# EAGLE library part MIMXRT1051DVL6B (library MIMXRT1051DVL6B)
NXP - MIMXRT1051DVL6B - I.MX RT1050 CROSSOVER PROCESSOR Source: Datasheet <https://www.nxp.com/docs/en/data-sheet/IMXRT1050CEC.pdf>
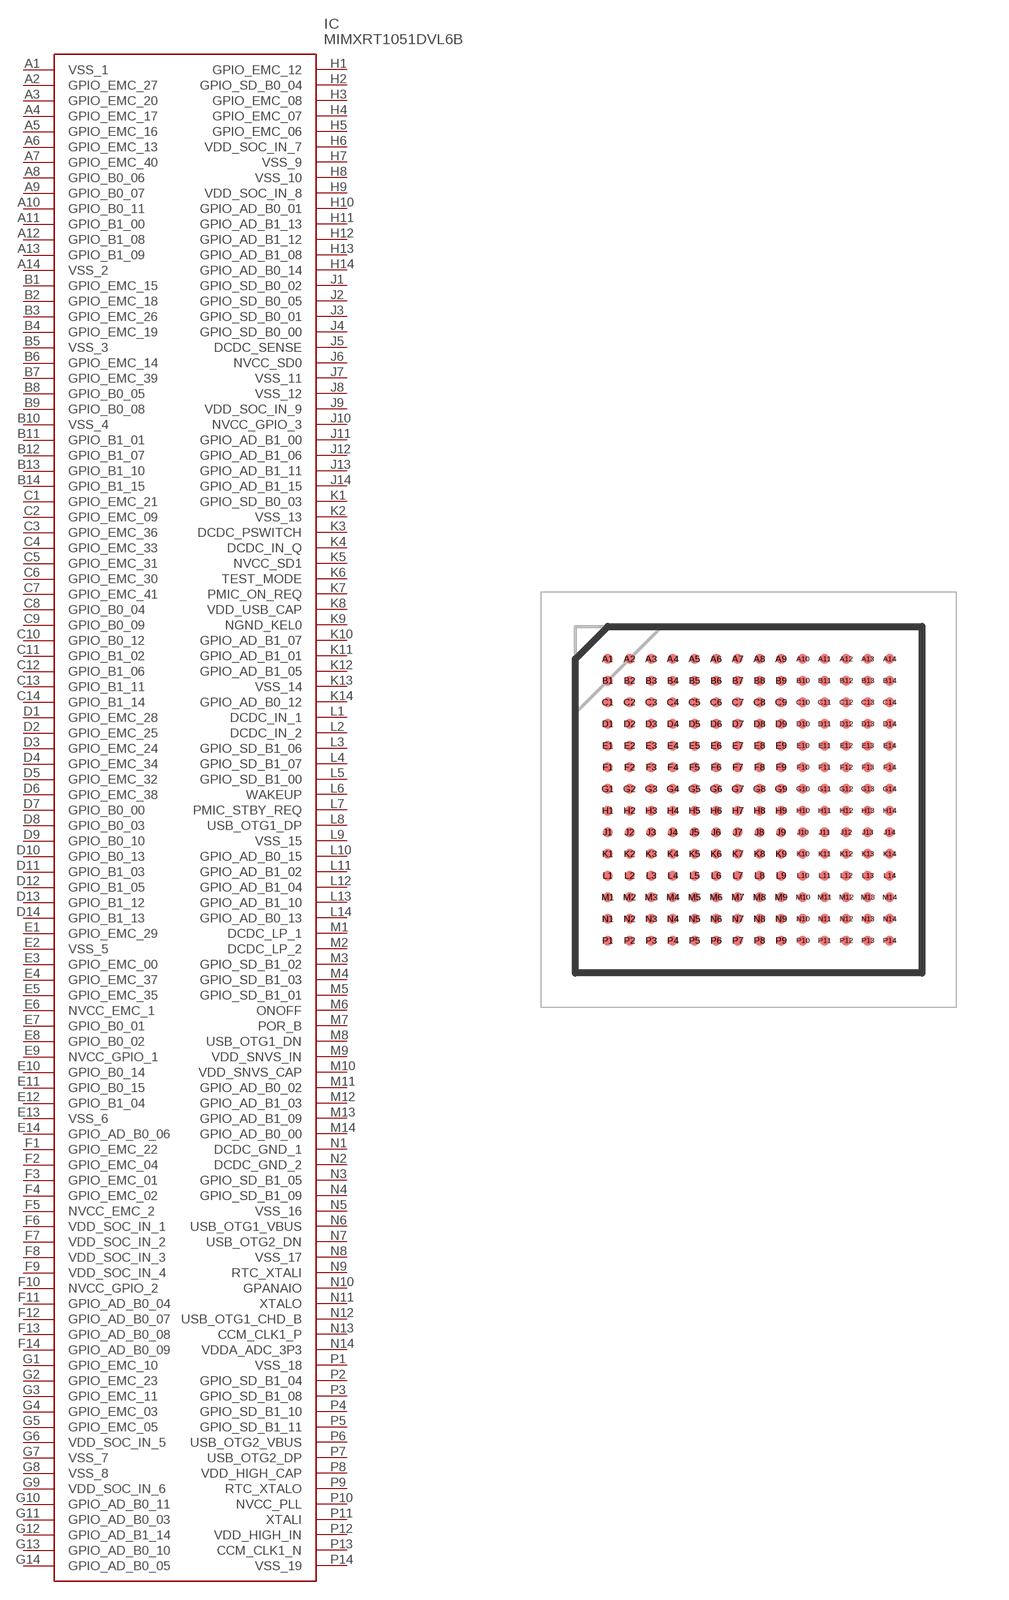
[diagram p0: symbol with the pads of BGA196C62P14X14_1000X1000X152; footprint BGA196C62P14X14_1000X1000X152]

Designator prefix IC

## MIMXRT1051DVL6B (Availability: Unavailable; Description: i.MXRT1050 A1; MF: NXP USA; MP: MIMXRT1051DVL6B; Package: LFBGA-196 NXP USA Inc.; Price: None)  [BGA196C62P14X14_1000X1000X152]
A1  VSS_1
A2  GPIO_EMC_27
A3  GPIO_EMC_20
A4  GPIO_EMC_17
A5  GPIO_EMC_16
A6  GPIO_EMC_13
A7  GPIO_EMC_40
A8  GPIO_B0_06
A9  GPIO_B0_07
A10  GPIO_B0_11
A11  GPIO_B1_00
A12  GPIO_B1_08
A13  GPIO_B1_09
A14  VSS_2
B1  GPIO_EMC_15
B2  GPIO_EMC_18
B3  GPIO_EMC_26
B4  GPIO_EMC_19
B5  VSS_3
B6  GPIO_EMC_14
B7  GPIO_EMC_39
B8  GPIO_B0_05
B9  GPIO_B0_08
B10  VSS_4
B11  GPIO_B1_01
B12  GPIO_B1_07
B13  GPIO_B1_10
B14  GPIO_B1_15
C1  GPIO_EMC_21
C2  GPIO_EMC_09
C3  GPIO_EMC_36
C4  GPIO_EMC_33
C5  GPIO_EMC_31
C6  GPIO_EMC_30
C7  GPIO_EMC_41
C8  GPIO_B0_04
C9  GPIO_B0_09
C10  GPIO_B0_12
C11  GPIO_B1_02
C12  GPIO_B1_06
C13  GPIO_B1_11
C14  GPIO_B1_14
D1  GPIO_EMC_28
D2  GPIO_EMC_25
D3  GPIO_EMC_24
D4  GPIO_EMC_34
D5  GPIO_EMC_32
D6  GPIO_EMC_38
D7  GPIO_B0_00
D8  GPIO_B0_03
D9  GPIO_B0_10
D10  GPIO_B0_13
D11  GPIO_B1_03
D12  GPIO_B1_05
D13  GPIO_B1_12
D14  GPIO_B1_13
E1  GPIO_EMC_29
E2  VSS_5
E3  GPIO_EMC_00
E4  GPIO_EMC_37
E5  GPIO_EMC_35
E6  NVCC_EMC_1
E7  GPIO_B0_01
E8  GPIO_B0_02
E9  NVCC_GPIO_1
E10  GPIO_B0_14
E11  GPIO_B0_15
E12  GPIO_B1_04
E13  VSS_6
E14  GPIO_AD_B0_06
F1  GPIO_EMC_22
F2  GPIO_EMC_04
F3  GPIO_EMC_01
F4  GPIO_EMC_02
F5  NVCC_EMC_2
F6  VDD_SOC_IN_1
F7  VDD_SOC_IN_2
F8  VDD_SOC_IN_3
F9  VDD_SOC_IN_4
F10  NVCC_GPIO_2
F11  GPIO_AD_B0_04
F12  GPIO_AD_B0_07
F13  GPIO_AD_B0_08
F14  GPIO_AD_B0_09
G1  GPIO_EMC_10
G2  GPIO_EMC_23
G3  GPIO_EMC_11
G4  GPIO_EMC_03
G5  GPIO_EMC_05
G6  VDD_SOC_IN_5
G7  VSS_7
G8  VSS_8
G9  VDD_SOC_IN_6
G10  GPIO_AD_B0_11
G11  GPIO_AD_B0_03
G12  GPIO_AD_B1_14
G13  GPIO_AD_B0_10
G14  GPIO_AD_B0_05
H1  GPIO_EMC_12
H2  GPIO_SD_B0_04
H3  GPIO_EMC_08
H4  GPIO_EMC_07
H5  GPIO_EMC_06
H6  VDD_SOC_IN_7
H7  VSS_9
H8  VSS_10
H9  VDD_SOC_IN_8
H10  GPIO_AD_B0_01
H11  GPIO_AD_B1_13
H12  GPIO_AD_B1_12
H13  GPIO_AD_B1_08
H14  GPIO_AD_B0_14
J1  GPIO_SD_B0_02
J2  GPIO_SD_B0_05
J3  GPIO_SD_B0_01
J4  GPIO_SD_B0_00
J5  DCDC_SENSE
J6  NVCC_SD0
J7  VSS_11
J8  VSS_12
J9  VDD_SOC_IN_9
J10  NVCC_GPIO_3
J11  GPIO_AD_B1_00
J12  GPIO_AD_B1_06
J13  GPIO_AD_B1_11
J14  GPIO_AD_B1_15
K1  GPIO_SD_B0_03
K2  VSS_13
K3  DCDC_PSWITCH
K4  DCDC_IN_Q
K5  NVCC_SD1
K6  TEST_MODE
K7  PMIC_ON_REQ
K8  VDD_USB_CAP
K9  NGND_KEL0
K10  GPIO_AD_B1_07
K11  GPIO_AD_B1_01
K12  GPIO_AD_B1_05
K13  VSS_14
K14  GPIO_AD_B0_12
L1  DCDC_IN_1
L2  DCDC_IN_2
L3  GPIO_SD_B1_06
L4  GPIO_SD_B1_07
L5  GPIO_SD_B1_00
L6  WAKEUP
L7  PMIC_STBY_REQ
L8  USB_OTG1_DP
L9  VSS_15
L10  GPIO_AD_B0_15
L11  GPIO_AD_B1_02
L12  GPIO_AD_B1_04
L13  GPIO_AD_B1_10
L14  GPIO_AD_B0_13
M1  DCDC_LP_1
M2  DCDC_LP_2
M3  GPIO_SD_B1_02
M4  GPIO_SD_B1_03
M5  GPIO_SD_B1_01
M6  ONOFF
M7  POR_B
M8  USB_OTG1_DN
M9  VDD_SNVS_IN
M10  VDD_SNVS_CAP
M11  GPIO_AD_B0_02
M12  GPIO_AD_B1_03
M13  GPIO_AD_B1_09
M14  GPIO_AD_B0_00
N1  DCDC_GND_1
N2  DCDC_GND_2
N3  GPIO_SD_B1_05
N4  GPIO_SD_B1_09
N5  VSS_16
N6  USB_OTG1_VBUS
N7  USB_OTG2_DN
N8  VSS_17
N9  RTC_XTALI
N10  GPANAIO
N11  XTALO
N12  USB_OTG1_CHD_B
N13  CCM_CLK1_P
N14  VDDA_ADC_3P3
P1  VSS_18
P2  GPIO_SD_B1_04
P3  GPIO_SD_B1_08
P4  GPIO_SD_B1_10
P5  GPIO_SD_B1_11
P6  USB_OTG2_VBUS
P7  USB_OTG2_DP
P8  VDD_HIGH_CAP
P9  RTC_XTALO
P10  NVCC_PLL
P11  XTALI
P12  VDD_HIGH_IN
P13  CCM_CLK1_N
P14  VSS_19

## Footprint BGA196C62P14X14_1000X1000X152 (pad centres in mm)
10 x 10 mm BGA
smd 0.29 x 0.29: A1 -4.062,4.062; A2 -3.438,4.062; A3 -2.812,4.062; A4 -2.188,4.062; A5 -1.562,4.062; A6 -0.938,4.062; A7 -0.312,4.062; A8 0.312,4.062; A9 0.938,4.062; A10 1.562,4.062; A11 2.188,4.062; A12 2.812,4.062; A13 3.438,4.062; A14 4.062,4.062; B1 -4.062,3.438; B2 -3.438,3.438; B3 -2.812,3.438; B4 -2.188,3.438; B5 -1.562,3.438; B6 -0.938,3.438; B7 -0.312,3.438; B8 0.312,3.438; B9 0.938,3.438; B10 1.562,3.438; B11 2.188,3.438; B12 2.812,3.438; B13 3.438,3.438; B14 4.062,3.438; C1 -4.062,2.812; C2 -3.438,2.812; C3 -2.812,2.812; C4 -2.188,2.812; C5 -1.562,2.812; C6 -0.938,2.812; C7 -0.312,2.812; C8 0.312,2.812; C9 0.938,2.812; C10 1.562,2.812; C11 2.188,2.812; C12 2.812,2.812; C13 3.438,2.812; C14 4.062,2.812; D1 -4.062,2.188; D2 -3.438,2.188; D3 -2.812,2.188; D4 -2.188,2.188; D5 -1.562,2.188; D6 -0.938,2.188; D7 -0.312,2.188; D8 0.312,2.188; D9 0.938,2.188; D10 1.562,2.188; D11 2.188,2.188; D12 2.812,2.188; D13 3.438,2.188; D14 4.062,2.188; E1 -4.062,1.562; E2 -3.438,1.562; E3 -2.812,1.562; E4 -2.188,1.562; E5 -1.562,1.562; E6 -0.938,1.562; E7 -0.312,1.562; E8 0.312,1.562; E9 0.938,1.562; E10 1.562,1.562; E11 2.188,1.562; E12 2.812,1.562; E13 3.438,1.562; E14 4.062,1.562; F1 -4.062,0.938; F2 -3.438,0.938; F3 -2.812,0.938; F4 -2.188,0.938; F5 -1.562,0.938; F6 -0.938,0.938; F7 -0.312,0.938; F8 0.312,0.938; F9 0.938,0.938; F10 1.562,0.938; F11 2.188,0.938; F12 2.812,0.938; F13 3.438,0.938; F14 4.062,0.938; G1 -4.062,0.312; G2 -3.438,0.312; G3 -2.812,0.312; G4 -2.188,0.312; G5 -1.562,0.312; G6 -0.938,0.312; G7 -0.312,0.312; G8 0.312,0.312; G9 0.938,0.312; G10 1.562,0.312; G11 2.188,0.312; G12 2.812,0.312; G13 3.438,0.312; G14 4.062,0.312; H1 -4.062,-0.312; H2 -3.438,-0.312; H3 -2.812,-0.312; H4 -2.188,-0.312; H5 -1.562,-0.312; H6 -0.938,-0.312; H7 -0.312,-0.312; H8 0.312,-0.312; H9 0.938,-0.312; H10 1.562,-0.312; H11 2.188,-0.312; H12 2.812,-0.312; H13 3.438,-0.312; H14 4.062,-0.312; J1 -4.062,-0.938; J2 -3.438,-0.938; J3 -2.812,-0.938; J4 -2.188,-0.938; J5 -1.562,-0.938; J6 -0.938,-0.938; J7 -0.312,-0.938; J8 0.312,-0.938; J9 0.938,-0.938; J10 1.562,-0.938; J11 2.188,-0.938; J12 2.812,-0.938; J13 3.438,-0.938; J14 4.062,-0.938; K1 -4.062,-1.562; K2 -3.438,-1.562; K3 -2.812,-1.562; K4 -2.188,-1.562; K5 -1.562,-1.562; K6 -0.938,-1.562; K7 -0.312,-1.562; K8 0.312,-1.562; K9 0.938,-1.562; K10 1.562,-1.562; K11 2.188,-1.562; K12 2.812,-1.562; K13 3.438,-1.562; K14 4.062,-1.562; L1 -4.062,-2.188; L2 -3.438,-2.188; L3 -2.812,-2.188; L4 -2.188,-2.188; L5 -1.562,-2.188; L6 -0.938,-2.188; L7 -0.312,-2.188; L8 0.312,-2.188; L9 0.938,-2.188; L10 1.562,-2.188; L11 2.188,-2.188; L12 2.812,-2.188; L13 3.438,-2.188; L14 4.062,-2.188; M1 -4.062,-2.812; M2 -3.438,-2.812; M3 -2.812,-2.812; M4 -2.188,-2.812; M5 -1.562,-2.812; M6 -0.938,-2.812; M7 -0.312,-2.812; M8 0.312,-2.812; M9 0.938,-2.812; M10 1.562,-2.812; M11 2.188,-2.812; M12 2.812,-2.812; M13 3.438,-2.812; M14 4.062,-2.812; N1 -4.062,-3.438; N2 -3.438,-3.438; N3 -2.812,-3.438; N4 -2.188,-3.438; N5 -1.562,-3.438; N6 -0.938,-3.438; N7 -0.312,-3.438; N8 0.312,-3.438; N9 0.938,-3.438; N10 1.562,-3.438; N11 2.188,-3.438; N12 2.812,-3.438; N13 3.438,-3.438; N14 4.062,-3.438; P1 -4.062,-4.062; P2 -3.438,-4.062; P3 -2.812,-4.062; P4 -2.188,-4.062; P5 -1.562,-4.062; P6 -0.938,-4.062; P7 -0.312,-4.062; P8 0.312,-4.062; P9 0.938,-4.062; P10 1.562,-4.062; P11 2.188,-4.062; P12 2.812,-4.062; P13 3.438,-4.062; P14 4.062,-4.062